# Altium footprint library main_board_PcbLib1.PcbLib: 8 footprints
Each footprint in its own frame and in the unit in brackets; x right, y up, seen from the top. Pads: shape width x height; smd on the part's side, far side on the other; paste and mask are expansions set on the pad; w line width, h text height; cw(c..) or ccw(c..) is an arc to the next point about the centre after c.
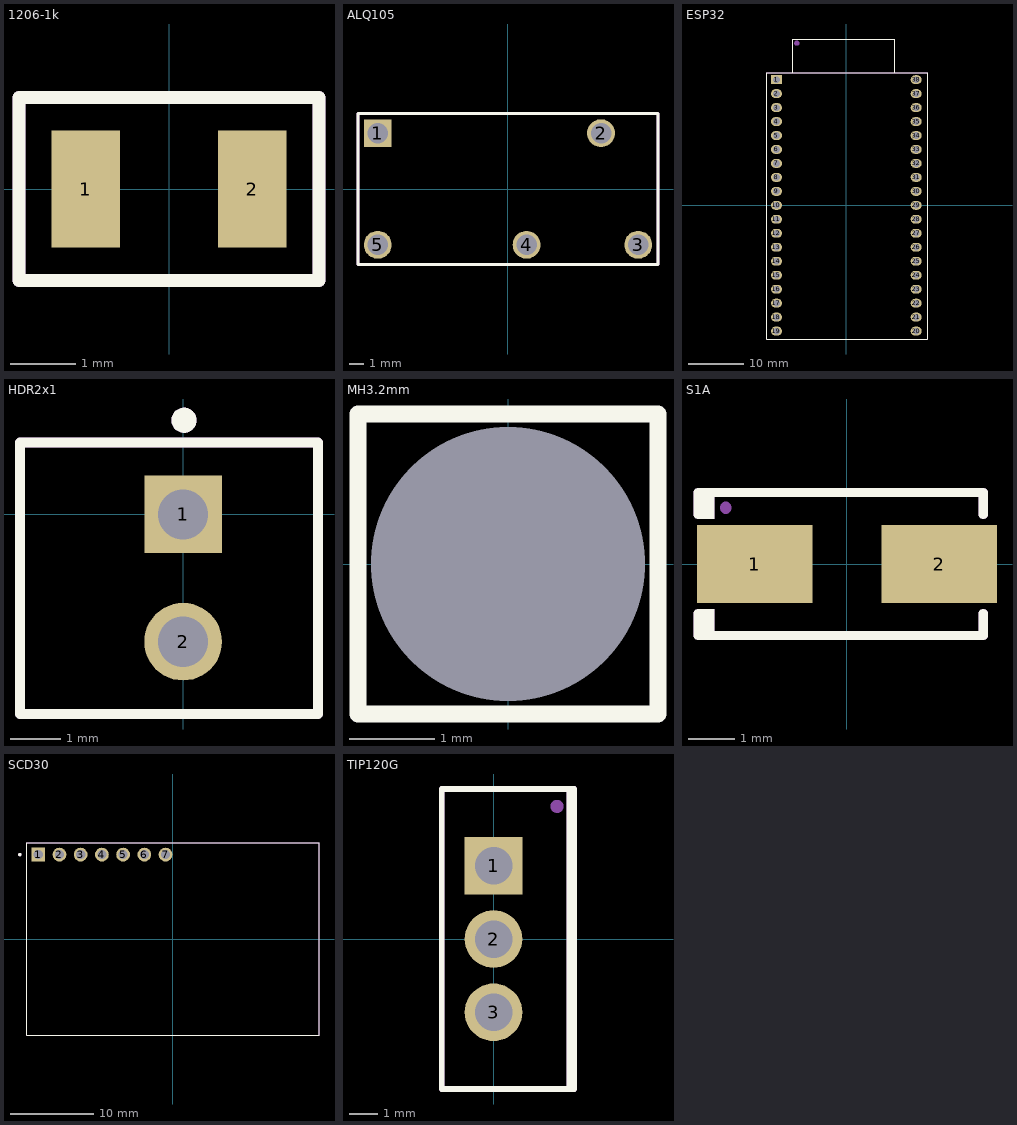
[diagram p0: the footprints below, top view; thin cyan lines are the x and y axes]

## 1206-1k [mm]
pads (2):
  rect 1.05x1.8 smd: 1(-1.275,0) 2(1.275,0)
Top Overlay:
  lines w0.2: -2.3,-1.4 2.3,-1.4 2.3,1.4 -2.3,1.4 -2.3,-1.4
Top Assembly:
  lines w0.2: -2.3,-1.4 2.3,-1.4 2.3,1.4 -2.3,1.4 -2.3,-1.4
  text "'.Designator'" at -3.965,-0.292 h0.7
3D body "4149.stp": height 0.5, standoff 0, extent -1,-0.65 1,0.6

## ALQ105 [mm]
pads (5):
  rect 1.9x1.9 hole 1.4: 1(-8.89,3.81)
  round 1.9 hole 1.4: 2(6.35,3.81) 3(8.89,-3.81) 4(1.27,-3.81) 5(-8.89,-3.81)
Top Overlay:
  lines w0.2: -10.24,-5.16 10.24,-5.16 10.24,5.16 -10.24,5.16 -10.24,-5.16
Top Assembly:
  lines w0.2: -10.24,-5.16 10.24,-5.16 10.24,5.16 -10.24,5.16 -10.24,-5.16
  text "'.Designator'" at -8.633,-0.635 h1.52
3D body "Panasonic LQ Series Relays CAD Drawing ALQ1 (STEP).step": height 16, standoff -3.8, extent -10,-5 10,5

## ESP32 [mm]
pads (38):
  rect 2x1.6 hole 1.2: 1(-12.7,22.86)
  oval 2x1.6 hole 1.2: 2(-12.7,20.32) 3(-12.7,17.78) 4(-12.7,15.24) 5(-12.7,12.7) 6(-12.7,10.16) 7(-12.7,7.62) 8(-12.7,5.08) 9(-12.7,2.54) 10(-12.7,0) 11(-12.7,-2.54) 12(-12.7,-5.08) 13(-12.7,-7.62) 14(-12.7,-10.16) 15(-12.7,-12.7) 16(-12.7,-15.24) 17(-12.7,-17.78) 18(-12.7,-20.32) 19(-12.7,-22.86) 20(12.7,-22.86) 21(12.7,-20.32) 22(12.7,-17.78) 23(12.7,-15.24) 24(12.7,-12.7) 25(12.7,-10.16) 26(12.7,-7.62) 27(12.7,-5.08) 28(12.7,-2.54) 29(12.7,0) 30(12.7,2.54) 31(12.7,5.08) 32(12.7,7.62) 33(12.7,10.16) 34(12.7,12.7) 35(12.7,15.24) 36(12.7,17.78) 37(12.7,20.32) 38(12.7,22.86)
Top Overlay:
  lines w0.2: -9.725,24.2 -9.725,30.25 8.8,30.25 8.8,24.15 ; -14.475,-24.3 14.725,-24.3 14.725,24.13 0.635,24.13 -0.635,24.13 -14.475,24.13 -14.475,-24.3
Top Assembly:
  circle w0.5: c-9,29.5 r0.224
  lines w0.2: -9.725,24.2 -9.725,30.25 8.8,30.25 8.8,24.15 ; -14.475,-24.3 14.725,-24.3 14.725,24.13 0.635,24.13 -0.635,24.13 -14.475,24.13 -14.475,-24.3
  text "'.Designator'" at -8.633,-0.635 h1.52
3D body "ESP32-DEVKITC-32D--3DModel-STEP-56544.STEP": height 6.7, standoff -5.99, extent -13.92,-24.85 14.02,30.25

## HDR2x1 [mm]
pads (2):
  rect 1.55x1.55 hole 1: 1(0,0)
  round 1.55 hole 1: 2(0,-2.54)
Top Overlay:
  circle w0.25: c0.018,1.878 r0.125
  lines w0.2: -3.257,-3.982 2.693,-3.982 2.693,1.438 -3.257,1.438 -3.257,-3.982
Top Assembly:
  circle w0.25: c0.018,1.878 r0.125
  lines w0.2: -3.257,-3.982 2.693,-3.982 2.693,1.438 -3.257,1.438 -3.257,-3.982
  text "'.Designator'" at -6.798,-1.8 h1.2
3D body "61900211121_Download_STP_61900211121_rev1.stp": height 11.51, standoff -3.39, extent -3.2,-3.81 2.6,1.27

## MH3.2mm [mm]
pads (1):
  round 1 hole 3.2: ""(0,0)
Top Overlay:
  lines w0.2: -1.75,-1.75 -1.75,0 -1.75,1.75 1.75,1.75 1.75,-1.75 -1.75,-1.75

## S1A [mm]
pads (2):
  rect 2.5x1.7 smd: 1(-2,0) 2(2,0)
Top Overlay:
  rectangle: -3.225,0.975 -2.875,1.525
  rectangle: -3.225,-1.55 -2.875,-0.975
  lines w0.2: -3.225,-1.075 -3.225,-1.55 2.95,-1.55 2.95,-1.075 ; -3.225,1.075 -3.225,1.525 ; -3.225,1.55 -0.5,1.55 2.95,1.55 ; 2.95,1.075 2.95,1.525
Top Assembly:
  rectangle: -3.225,0.975 -2.875,1.525
  rectangle: -3.225,-1.55 -2.875,-0.975
  lines w0.2: -3.225,-1.075 -3.225,-1.55 2.95,-1.55 2.95,-1.075 ; -3.225,1.075 -3.225,1.525 ; -3.225,1.55 -0.5,1.55 2.95,1.55 ; 2.95,1.075 2.95,1.525
  lines w0.254: -2.626,1.215 ccw(c-2.675,1.225) -2.625,1.225
  text "'.Designator'" at -6.798,-0.5 h1.2
3D body "SMA_SDS.step": height 3.01, standoff 0.01, extent -2.839,-1.419 2.825,1.425

## SCD30 [mm]
pads (7):
  rect 1.65x1.65 hole 1.1: 1(-16.1,10.1)
  round 1.65 hole 1.1: 2(-13.56,10.1) 3(-11.02,10.1) 4(-8.48,10.1) 5(-5.94,10.1) 6(-3.4,10.1) 7(-0.86,10.1)
Top Overlay:
  circle w0.2: c-18.3,10.1 r0.1
  lines w0.127: -17.5,-11.5 -17.5,11.5 17.5,11.5 17.5,-11.5 -17.5,-11.5
Top Assembly:
  circle w0.2: c-18.3,10.1 r0.1
  lines w0.127: -17.5,-11.5 -17.5,11.5 17.5,11.5 17.5,-11.5 -17.5,-11.5
  text "'.Designator'" at -6.798,-0.5 h1.2
3D body "SCD30--3DModel-STEP-56544.STEP": height 8.46, standoff 1.46, extent -17.5,-11.5 17.5,11.5
3D body "61300711121_Download_STP_61300711121_rev1.stp": height 5.55, standoff -5.99, extent -17.37,8.83 0.41,11.37

## TIP120G [mm]
pads (3):
  rect 2x2 hole 1.3: 1(0,2.54)
  round 2 hole 1.3: 2(0,0) 3(0,-2.54)
Top Overlay:
  lines w0.2: 2.625,-5.16 2.625,-2.585 2.625,2.565 2.625,5.14 ; -1.8,-5.2 -1.8,5.2 2.8,5.2 2.8,-5.2 -1.8,-5.2
Top Assembly:
  circle w0.254: c2.2,4.6 r0.1
  lines w0.2: -1.8,-5.2 2.8,-5.2 ; -1.8,-5.2 -1.8,5.2 ; -1.8,-5.2 -1.8,5.2 ; -1.8,5.2 2.8,5.2 ; 2.8,-5.2 2.625,-5.2 2.625,5.2 2.8,5.2 ; 2.8,-5.2 2.8,5.2
  text "'.Designator'" at -6.798,-0.5 h1.2
3D body "TIP120G.STEP": height 16.31, standoff -14.03, extent -1.89,-5.08 2.7,5.08